# Altium schematic symbol library HopeRF.SchLib: 1 symbol
Pins are listed as number, name and electrical type; pins without a type are passive.

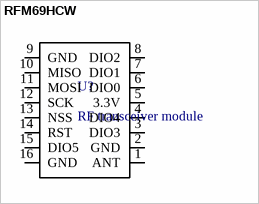
[diagram p0: symbol RFM69HCW]

## RFM69HCW
designator U?, comment RF transceiver module
Manufacturer: HopeRF; Part Number: RFM69HCW; Price 1: 4.8; Price 100: 3.33; Price 1000: 3.33
footprint RFM69HCW
pins: 1 ANT, 2 GND, 3 DIO3, 4 DIO4, 5 3.3V, 6 DIO0, 7 DIO1, 8 DIO2, 9 GND, 10 MISO, 11 MOSI, 12 SCK, 13 NSS, 14 RST, 15 DIO5, 16 GND